# Altium footprint library 2STF1360.PcbLib: 3 footprints
Each footprint in its own frame and in the unit in brackets; x right, y up, seen from the top. Pads: shape width x height; smd on the part's side, far side on the other; paste and mask are expansions set on the pad; w line width, h text height; cw(c..) or ccw(c..) is an arc to the next point about the centre after c.
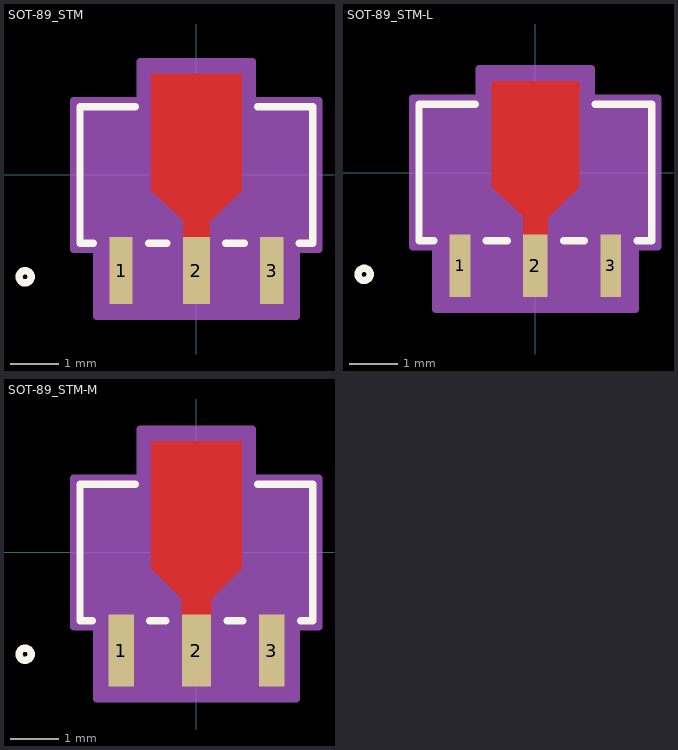
[diagram p0: the footprints below, top view; thin cyan lines are the x and y axes]

## SOT-89_STM [mil]
pads (3):
  rect 19x55 smd paste+0 mask+0: 1(-61.81,-78.5) 3(61.81,-78.5)
  rect 22x55 smd paste+0 mask+0: 2(0,-78.5)
Top Layer:
  region: 11,-51 -11,-51 -11,-37 -37,-13 -37,83 37,83 37,-13 11,-38
Top Overlay:
  circle w6: c-140.5,-83.5 r5
  lines w6: -84.41,-56 -95.5,-56 -95.5,56 -50.1,56 ; -39.21,-56 -24.1,-56 ; 24.1,-56 39.21,-56 ; 50.1,56 95.5,56 95.5,-56 84.41,-56
Top Paste:
  region: 11,-51 -11,-51 -11,-37 -36,-12 -36,77 36,77 36,-12 11,-37
Top Solder:
  region: 11,-51 -11,-51 -11,-37 -36,-12 -36,77 36,77 36,-12 11,-37
Mechanical 13:
  circle w0: c-80.5,-41 r5
  lines w1: -90.5,-51 90.5,-51 90.5,51 -90.5,51 -90.5,-51 ; -71.31,-98 -71.31,-51 -52.31,-51 -52.31,-98 -71.31,-98 ; -11,-98 -11,-51 11,-51 11,-98 -11,-98 ; 52.31,-98 52.31,-51 71.31,-51 71.31,-98 52.31,-98
Mechanical 15:
  region: -100.5,-61 -100.5,61 -46,61 -46,93 46,93 46,61 100.5,61 100.5,-61 81.81,-61 81.81,-116 -81.81,-116 -81.81,-61
  lines w6: -100.5,-61 -100.5,61 -46,61 -46,93 46,93 46,61 100.5,61 100.5,-61 81.81,-61 81.81,-116 -81.81,-116 -81.81,-61 -100.5,-61
3D body "SOT-89_STM.step": height 65.12, standoff 0, extent -90.51,-97.99 90.51,69.02

## SOT-89_STM-L [mil]
pads (3):
  rect 17x51 smd paste+0 mask+0: 1(-61.81,-76.5) 3(61.81,-76.5)
  rect 20x51 smd paste+0 mask+0: 2(0,-76.5)
Top Layer:
  region: 10,-51 -10,-51 -10,-36 -36,-12 -36,75 36,75 36,-12 10,-37
Top Overlay:
  circle w6: c-140.5,-83.5 r5
  lines w6: -83.41,-56 -95.5,-56 -95.5,56 -49.1,56 ; -40.21,-56 -23.1,-56 ; 23.1,-56 40.21,-56 ; 49.1,56 95.5,56 95.5,-56 83.41,-56
Top Paste:
  region: 10,-50 -10,-50 -10,-36 -35,-11 -35,73 35,73 35,-11 10,-36
Top Solder:
  region: 10,-50 -10,-50 -10,-36 -35,-11 -35,73 35,73 35,-11 10,-36
Mechanical 13:
  circle w0: c-80.5,-41 r5
  lines w1: -90.5,-51 90.5,-51 90.5,51 -90.5,51 -90.5,-51 ; -71.31,-98 -71.31,-51 -52.31,-51 -52.31,-98 -71.31,-98 ; -11,-98 -11,-51 11,-51 11,-98 -11,-98 ; 52.31,-98 52.31,-51 71.31,-51 71.31,-98 52.31,-98
Mechanical 15:
  region: -100.5,-61 -100.5,61 -46,61 -46,85 46,85 46,61 100.5,61 100.5,-61 81.81,-61 81.81,-112 -81.81,-112 -81.81,-61
  lines w6: -100.5,-61 -100.5,61 -46,61 -46,85 46,85 46,61 100.5,61 100.5,-61 81.81,-61 81.81,-112 -81.81,-112 -81.81,-61 -100.5,-61
3D body "SOT-89_STM.step": height 65.12, standoff 0, extent -90.51,-97.99 90.51,69.02

## SOT-89_STM-M [mil]
pads (3):
  rect 21x59 smd paste+0 mask+0: 1(-61.81,-80.5) 3(61.81,-80.5)
  rect 24x59 smd paste+0 mask+0: 2(0,-80.5)
Top Layer:
  region: 12,-51 -12,-51 -12,-38 -37,-13 -37,91 37,91 37,-13 12,-38
Top Overlay:
  circle w6: c-140.5,-83.5 r5
  lines w6: -85.41,-56 -95.5,-56 -95.5,56 -50.1,56 ; -38.21,-56 -25.1,-56 ; 25.1,-56 38.21,-56 ; 50.1,56 95.5,56 95.5,-56 85.41,-56
Top Paste:
  region: 12,-52 -12,-52 -12,-38 -37,-13 -37,81 37,81 37,-13 12,-38
Top Solder:
  region: 12,-52 -12,-52 -12,-38 -37,-13 -37,81 37,81 37,-13 12,-38
Mechanical 13:
  circle w0: c-80.5,-41 r5
  lines w1: -90.5,-51 90.5,-51 90.5,51 -90.5,51 -90.5,-51 ; -71.31,-98 -71.31,-51 -52.31,-51 -52.31,-98 -71.31,-98 ; -11,-98 -11,-51 11,-51 11,-98 -11,-98 ; 52.31,-98 52.31,-51 71.31,-51 71.31,-98 52.31,-98
Mechanical 15:
  region: -100.5,-61 -100.5,61 -46,61 -46,101 46,101 46,61 100.5,61 100.5,-61 81.81,-61 81.81,-120 -81.81,-120 -81.81,-61
  lines w6: -100.5,-61 -100.5,61 -46,61 -46,101 46,101 46,61 100.5,61 100.5,-61 81.81,-61 81.81,-120 -81.81,-120 -81.81,-61 -100.5,-61
3D body "SOT-89_STM.step": height 65.12, standoff 0, extent -90.51,-97.99 90.51,69.02